# Altium footprint library PCB - AUDIO - DIP08.PcbLib: 1 footprints
Each footprint in its own frame and in the unit in brackets; x right, y up, seen from the top. Pads: shape width x height; smd on the part's side, far side on the other; paste and mask are expansions set on the pad; w line width, h text height; cw(c..) or ccw(c..) is an arc to the next point about the centre after c.
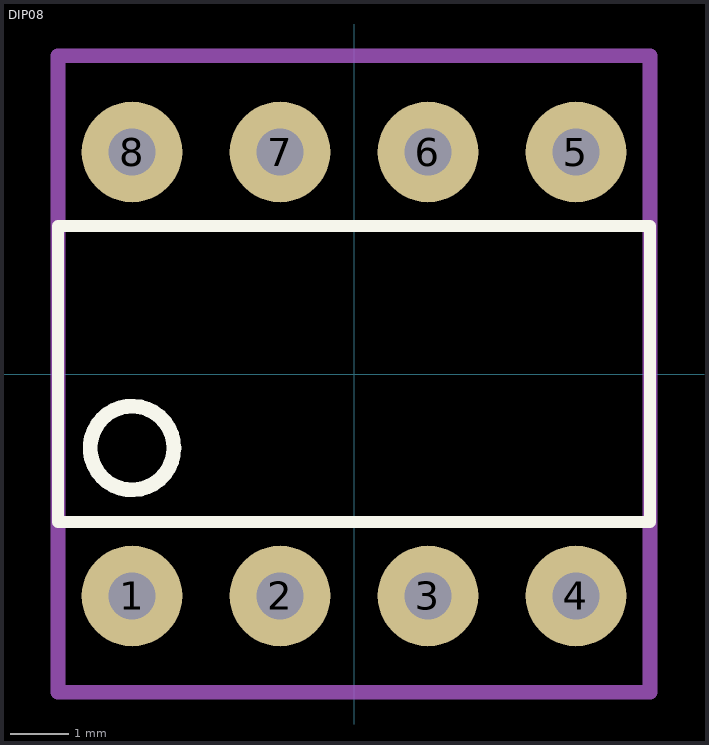
[diagram p0: the footprint, top view; thin cyan lines are the x and y axes]

## DIP08 [mil]
pads (8):
  round 68 hole 32: 1(-150,-150) 2(-50,-150) 3(50,-150) 4(150,-150) 5(150,150) 6(50,150) 7(-50,150) 8(-150,150)
Top Overlay:
  circle w10: c-150,-50 r28.28
  lines w8: -200,-40 -200,-60 ; -200,-60 -200,100 200,100 200,-100 -200,-100 -200,-60
Mechanical 15:
  lines w10: -200,-215 200,-215 200,215 -200,215 -200,-215
Mechanical 29:
  text "'.Designator'" at -115,-10.01 h60
3D body "step_temp.STEP": height 210, standoff -150, extent -182.5,-215 182.5,215